# EAGLE library part SNSR_CURR_INA236 (library !GPLIB_ACTIVE)
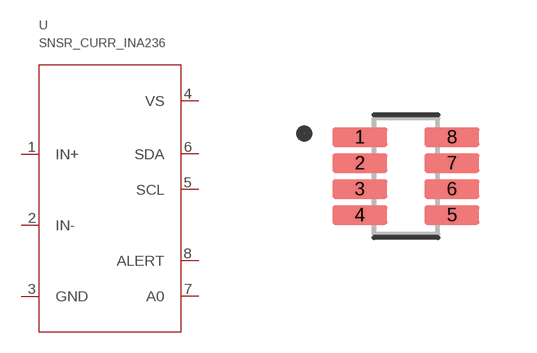
[diagram p115: symbol with the pads of SOT65P280X110-8N; footprint SOT65P280X110-8N]

Designator prefix U

## SNSR_CURR_INA236_INA236AIDDFR  [SOT65P280X110-8N]
1  IN+
2  IN-
3  GND
4  VS
5  SCL
6  SDA
7  A0
8  ALERT

## Footprint SOT65P280X110-8N (pad centres in mm)
smd 1.37 x 0.48: 1 -1.15,0.975; 2 -1.15,0.325; 3 -1.15,-0.325; 4 -1.15,-0.975; 5 1.15,-0.975; 6 1.15,-0.325; 7 1.15,0.325; 8 1.15,0.975